# EAGLE library part PIN_HEADER_6 (library 08_CONECTOR)
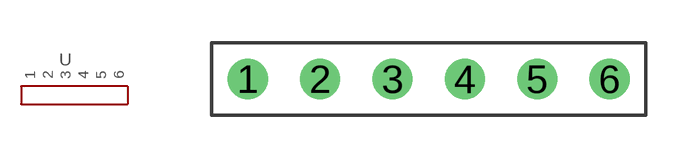
[diagram p0: symbol with the pads of PIN_HEADER_6; footprint PIN_HEADER_6]

Designator prefix -

## PIN_HEADER_6  [PIN_HEADER_6]
1  1
2  2
3  3
4  4
5  5
6  6

## Footprint PIN_HEADER_6 (pad centres in mm)
drill 0.9: 1 -6.35,0; 2 -3.81,0; 3 -1.27,0; 4 1.27,0; 5 3.81,0; 6 6.35,0